# Altium footprint library drfc_pcblib.PcbLib: 18 footprints (part 1 of 2)
Each footprint in its own frame and in the unit in brackets; x right, y up, seen from the top. Pads: shape width x height; smd on the part's side, far side on the other; paste and mask are expansions set on the pad; w line width, h text height; cw(c..) or ccw(c..) is an arc to the next point about the centre after c.
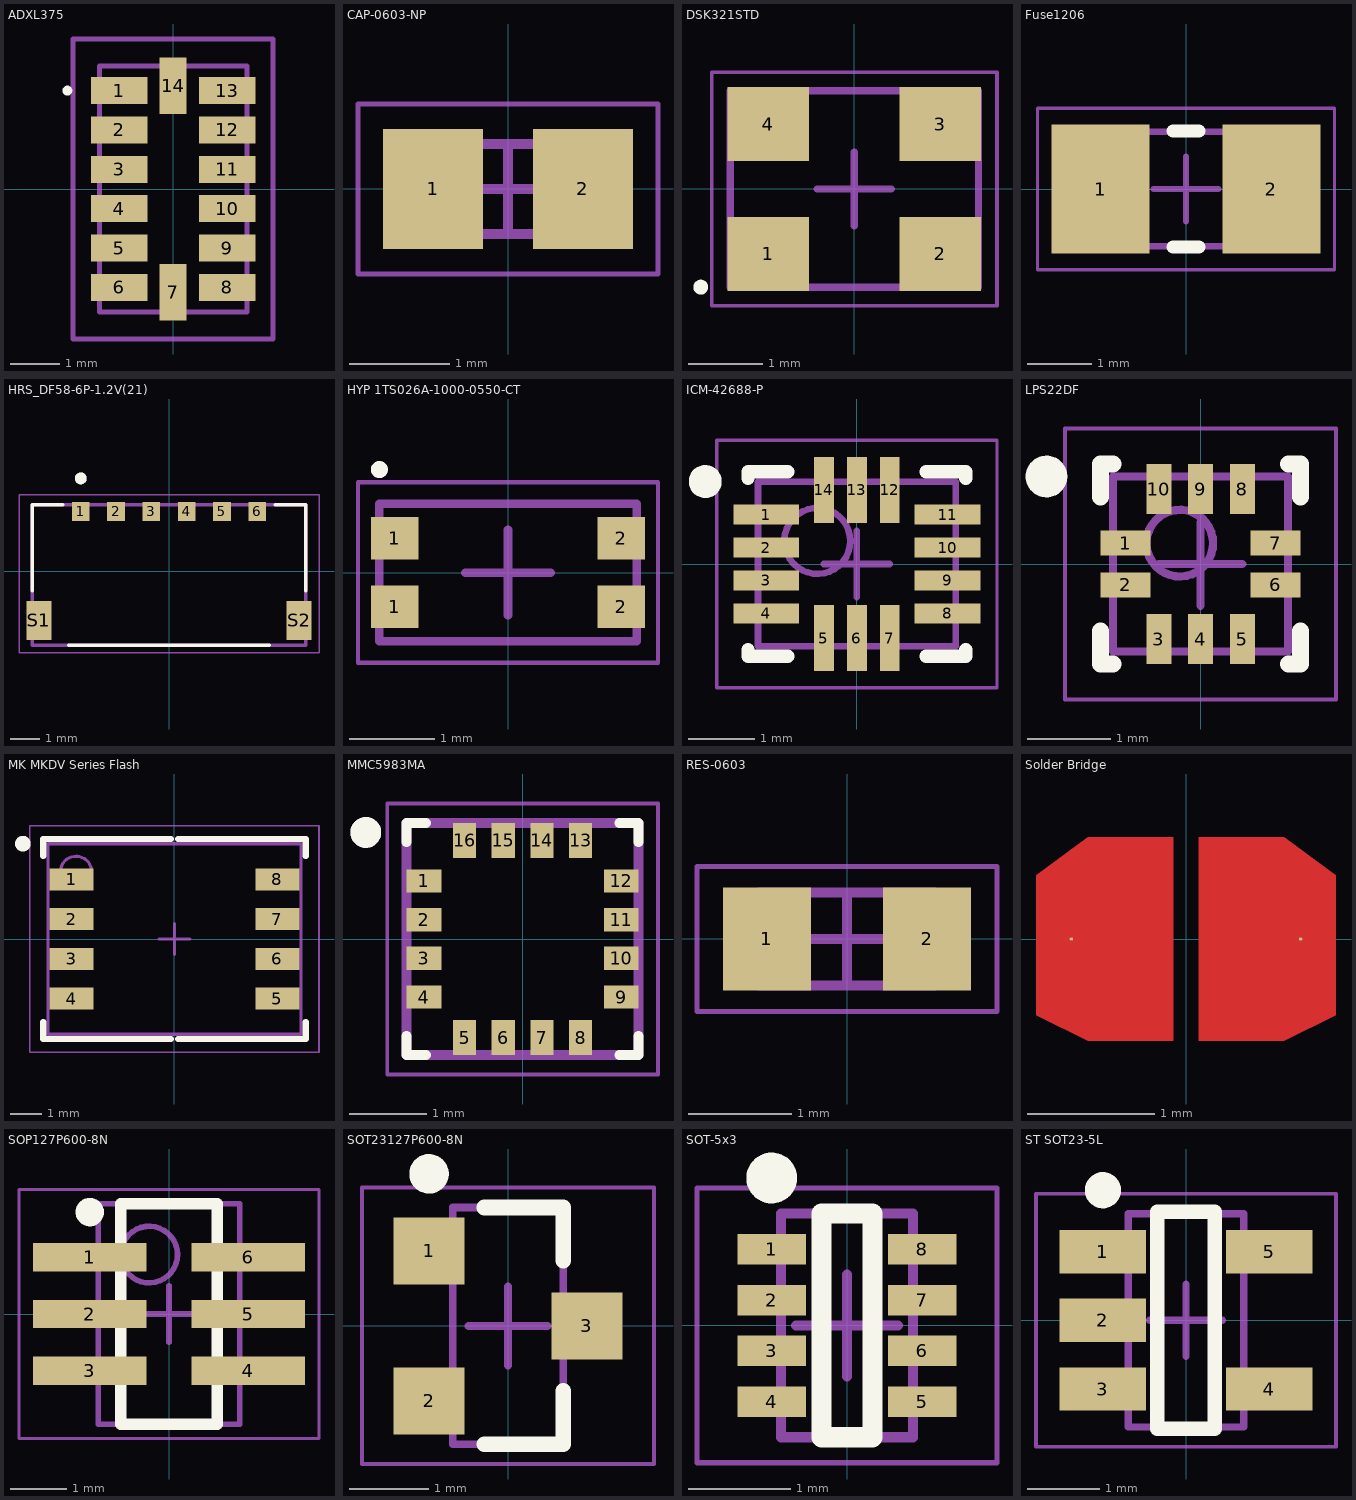
[diagram p0: the footprints below, top view; thin cyan lines are the x and y axes]

## ADXL375 [mm] "ADXL375 Accelerometer"
pads (14):
  rect 1.145x0.55 smd: 1(-1.098,2) 2(-1.098,1.2) 3(-1.098,0.4) 4(-1.098,-0.4) 5(-1.098,-1.2) 6(-1.098,-2) 8(1.098,-2) 9(1.098,-1.2) 10(1.098,-0.4) 11(1.098,0.4) 12(1.098,1.2) 13(1.098,2)
  rect 0.55x1.145 smd: 7(0,-2.098) 14(0,2.098)
Top Overlay:
  lines w0.1: -2.2,2 cw(c-2.15,2) -2.1,2 cw(c-2.15,2) -2.2,2
Mechanical 13:
  lines w0.1: -1.5,-2.5 -1.5,2.5 1.5,2.5 1.5,-2.5 -1.5,-2.5
Mechanical 15:
  lines w0.1: -2.032,-3.048 2.032,-3.048 2.032,3.048 -2.032,3.048 -2.032,-3.048
3D body "ADXL375BCCZ-RL.stp": height 1.1, standoff 0, extent -1.5,-2.5 1.5,2.5

## CAP-0603-NP [mm] "0603 Capacitor No Polarity"
height 0.9
pads (2):
  rect 1x1.2 smd: 1(-0.75,0) 2(0.75,0)
Mechanical 13:
  lines w0.1: -0.85,-0.45 -0.85,0.45 0.85,0.45 0.85,-0.45 -0.85,-0.45
Mechanical 15:
  lines w0.05: -1.5,-0.85 -1.5,0.85 1.5,0.85 1.5,-0.85 -1.5,-0.85
  lines w0.1: -0.45,0 0.45,0 ; 0,-0.45 0,0.45
3D body "CAP-0603-NP.step": height 0.9, standoff 0, extent -0.85,-0.45 0.85,0.45

## DSK321STD [mm] "DFN, 4-Leads, Body 3.20x2.50mm, Pitch 1.67mm, IPC Medium Density"
height 1
pads (4):
  rect 1.1x1 smd: 1(-1.16,-0.875) 2(1.16,-0.875) 3(1.16,0.875) 4(-1.16,0.875)
Top Overlay:
  circle w0.1: c-2.075,-1.325 r0.05
Mechanical 13:
  lines w0.1: -1.675,-1.325 -1.675,1.325 1.675,1.325 1.675,-1.325 -1.675,-1.325
Mechanical 15:
  lines w0.05: -1.925,-1.575 -1.925,1.575 1.925,1.575 1.925,-1.575 -1.925,-1.575
  lines w0.1: -0.5,0 0.5,0 ; 0,-0.5 0,0.5
3D body "DSK321STD.step": height 1, standoff 0, extent -1.675,-1.325 1.675,1.355

## Fuse1206 [mm] "Bel Fuse C1Q"
height 0.78
pads (2):
  rect 1.52x2 smd: 1(-1.325,0) 2(1.325,0)
Top Overlay:
  lines w0.2: -0.2,-0.9 0.2,-0.9 ; -0.2,0.9 0.2,0.9
Mechanical 13:
  lines w0.1: -1.7,-0.89 1.7,-0.89 1.7,0.89 -1.7,0.89 -1.7,-0.89
Mechanical 15:
  lines w0.05: -2.3,-1.25 2.3,-1.25 2.3,1.25 -2.3,1.25 -2.3,-1.25
  lines w0.1: -0.5,0 0.5,0 ; 0,-0.5 0,0.5
3D body "Chip2PinSM127P600-8N.step": height 0.78, standoff 0, extent -1.7,-0.89 1.7,0.89

## HRS_DF58-6P-1.2V(21) [mm] "Hirose DF58 6 Pin"
pads (8):
  rect 0.6x0.65 smd: 1(-3,2.025) 2(-1.8,2.025) 3(-0.6,2.025) 4(0.6,2.025) 5(1.8,2.025) 6(3,2.025)
  rect 0.85x1.34 smd: S1(-4.425,-1.68) S2(4.425,-1.68)
Top Overlay:
  circle w0.2: c-3,3.15 r0.1
  lines w0.127: -4.65,-0.66 -4.65,2.25 -3.62,2.25 ; -3.4,-2.52 3.4,-2.52 ; 3.62,2.25 4.65,2.25 4.65,-0.66
Mechanical 13:
  circle w0.2: c-3,3.15 r0.1
  lines w0.127: -4.65,-2.52 -4.65,2.25 4.65,2.25 4.65,-2.52 -4.65,-2.52
Mechanical 15:
  lines w0.05: -5.1,-2.77 -5.1,2.6 5.1,2.6 5.1,-2.77 -5.1,-2.77
3D body "DF58-6P-1.2V-21---3DModel-STEP-1.STEP": height 0.95, standoff 0, extent -4.65,-2.512 4.65,2.258

## HYP 1TS026A-1000-0550-CT [mm] "SPST Switch"
height 0.8
pads (4):
  rect 0.55x0.5 smd: 1(-1.325,-0.4) 1(-1.325,0.4) 2(1.325,-0.4) 2(1.325,0.4)
Top Overlay:
  circle w0.1: c-1.505,1.205 r0.05
Mechanical 13:
  lines w0.1: -1.505,-0.805 1.505,-0.805 1.505,0.805 -1.505,0.805 -1.505,-0.805
Mechanical 15:
  lines w0.05: -1.755,-1.055 1.755,-1.055 1.755,1.055 -1.755,1.055 -1.755,-1.055
  lines w0.1: -0.5,0 0.5,0 ; 0,-0.5 0,0.5
3D body "HYP 1TS026A-1000-0550-CT.step": height 0.8, standoff 0, extent -2,-0.805 2.05,0.805

## ICM-42688-P [mm] "QFN, 14-Leads, Body 3.00x2.50mm, Pitch 0.50mm, IPC Medium Density"
height 0.97
pads (14):
  rect 1x0.3 smd: 1(-1.375,0.75) 2(-1.375,0.25) 3(-1.375,-0.25) 4(-1.375,-0.75) 8(1.375,-0.75) 9(1.375,-0.25) 10(1.375,0.25) 11(1.375,0.75)
  rect 0.3x1 smd: 5(-0.5,-1.125) 6(0,-1.125) 7(0.5,-1.125) 12(0.5,1.125) 13(0,1.125) 14(-0.5,1.125)
Top Overlay:
  circle w0.25: c-2.3,1.25 r0.125
  lines w0.2: -1.65,-1.3 -1.65,-1.4 -1.05,-1.4 ; -1.65,1.3 -1.65,1.4 -1.05,1.4 ; 1.05,-1.4 1.65,-1.4 1.65,-1.3 ; 1.05,1.4 1.65,1.4 1.65,1.3
Mechanical 13:
  circle w0.1: c-0.6,0.35 r0.5
  lines w0.1: -1.5,-1.25 -1.5,1.25 1.5,1.25 1.5,-1.25 -1.5,-1.25
Mechanical 15:
  lines w0.05: -2.125,-1.875 -2.125,1.875 2.125,1.875 2.125,-1.875 -2.125,-1.875
  lines w0.1: -0.5,0 0.5,0 ; 0,-0.5 0,0.5
3D body "ICM-42688-P.step": height 0.97, standoff 0.11, extent -1.5,-1.25 1.5,1.25

## LPS22DF [mm] "QFN, 10-Leads, Body 2.00x2.00mm, Pitch 0.50mm, IPC Medium Density"
height 0.8
pads (10):
  rect 0.6x0.3 smd: 1(-0.9,0.25) 2(-0.9,-0.25) 6(0.9,-0.25) 7(0.9,0.25)
  rect 0.3x0.6 smd: 3(-0.5,-0.9) 4(0,-0.9) 5(0.5,-0.9) 8(0.5,0.9) 9(0,0.9) 10(-0.5,0.9)
Top Overlay:
  circle w0.25: c-1.85,1.05 r0.125
  lines w0.2: -1.2,-0.8 -1.2,-1.2 -1.05,-1.2 ; -1.2,0.8 -1.2,1.2 -1.05,1.2 ; 1.05,-1.2 1.2,-1.2 1.2,-0.8 ; 1.05,1.2 1.2,1.2 1.2,0.8
Mechanical 13:
  circle w0.1: c-0.25,0.25 r0.4
  lines w0.1: -1.05,-1.05 1.05,-1.05 1.05,1.05 -1.05,1.05 -1.05,-1.05
Mechanical 15:
  lines w0.05: -1.625,-1.625 1.625,-1.625 1.625,1.625 -1.625,1.625 -1.625,-1.625
  lines w0.1: -0.5,0 0.5,0 ; 0,-0.5 0,0.5
3D body "LPS22DF.step": height 0.8, standoff 0.08, extent -1.05,-1.05 1.05,1.05

## MK MKDV Series Flash [mm] "MK MKDV Series Flash"
height 0.75
pads (8):
  rect 1.4x0.7 smd: 1(-3.294,1.905) 2(-3.294,0.635) 3(-3.294,-0.635) 4(-3.294,-1.905) 5(3.294,-1.905) 6(3.294,-0.635) 7(3.294,0.635) 8(3.294,1.905)
Top Overlay:
  circle w0.25: c-4.85,3.05 r0.125
  lines w0.2: -4.2,-2.655 -4.2,-3.2 -0.115,-3.2 ; -4.2,2.655 -4.2,3.2 -0.115,3.2 ; 0.115,-3.2 4.2,-3.2 4.2,-2.655 ; 0.115,3.2 4.2,3.2 4.2,2.655
Mechanical 13:
  circle w0.1: c-3.15,2.15 r0.5
  lines w0.1: -4.05,-3.05 4.05,-3.05 4.05,3.05 -4.05,3.05 -4.05,-3.05
Mechanical 15:
  lines w0.05: -4.625,-3.625 4.625,-3.625 4.625,3.625 -4.625,3.625 -4.625,-3.625
  lines w0.1: -0.5,0 0.5,0 ; 0,-0.5 0,0.5
3D body "QFN127P800X600X75-8N.step": height 0.75, standoff 0.08, extent -4.05,-3.05 4.05,3.05

## MMC5983MA [mm] "Magnetometer"
pads (16):
  rect 0.45x0.3 smd: 1(-1.275,0.75) 2(-1.275,0.25) 3(-1.275,-0.25) 4(-1.275,-0.75) 9(1.275,-0.75) 10(1.275,-0.25) 11(1.275,0.25) 12(1.275,0.75)
  rect 0.3x0.45 smd: 5(-0.75,-1.275) 6(-0.25,-1.275) 7(0.25,-1.275) 8(0.75,-1.275) 13(0.75,1.275) 14(0.25,1.275) 15(-0.25,1.275) 16(-0.75,1.275)
Top Overlay:
  circle w0.2: c-2.028,1.378 r0.1
  lines w0.127: -1.5,-1.25 -1.5,-1.5 -1.25,-1.5 ; -1.5,1.25 -1.5,1.5 -1.25,1.5 ; 1.25,-1.5 1.5,-1.5 1.5,-1.25 ; 1.25,1.5 1.5,1.5 1.5,1.25
Mechanical 13:
  circle w0.2: c-2.028,1.378 r0.1
  lines w0.127: -1.5,-1.5 1.5,-1.5 1.5,1.5 -1.5,1.5 -1.5,-1.5
Mechanical 15:
  lines w0.05: -1.75,-1.75 1.75,-1.75 1.75,1.75 -1.75,1.75 -1.75,-1.75
3D body "step_temp.STEP": height 1, standoff 0, extent -1.5,-1.5 1.5,1.5

## RES-0603 [mm] "0603 Resistor"
height 0.55
pads (2):
  rect 0.85x1 smd: 1(-0.775,0) 2(0.775,0)
Mechanical 13:
  lines w0.1: -0.85,-0.45 0.85,-0.45 0.85,0.45 -0.85,0.45 -0.85,-0.45
Mechanical 15:
  lines w0.05: -1.45,-0.7 1.45,-0.7 1.45,0.7 -1.45,0.7 -1.45,-0.7
  lines w0.1: -0.45,0 0.45,0 ; 0,-0.45 0,0.45
3D body "Chip2PinSM127P600-8N.step": height 0.55, standoff 0, extent -0.85,-0.45 0.85,0.45

## Solder Bridge [mil] "Hex Solder Bridge"
pads (2):
  round 1 smd: 1(-35.43,0) 2(35.43,0)
Top Layer:
  region: 3.94,-31.5 3.94,31.5 30.32,31.5 46.34,19.68 46.34,-23.62 30.32,-31.5
  region: -3.94,-31.5 -3.94,31.5 -30.32,31.5 -46.34,19.68 -46.34,-23.62 -30.32,-31.5

## SOP127P600-8N [mm] "FFH10001-D06S1004K6M"
height 2.45
pads (6):
  rect 2x0.5 smd: 1(-1.4,1) 2(-1.4,0) 3(-1.4,-1) 4(1.4,-1) 5(1.4,0) 6(1.4,1)
Top Overlay:
  circle w0.25: c-1.4,1.8 r0.125
  lines w0.2: -0.85,-1.95 0.85,-1.95 0.85,1.95 -0.85,1.95 -0.85,-1.95
Mechanical 13:
  circle w0.1: c-0.35,1.05 r0.5
  lines w0.1: -1.25,-1.95 1.25,-1.95 1.25,1.95 -1.25,1.95 -1.25,-1.95
Mechanical 15:
  lines w0.05: -2.65,-2.2 2.65,-2.2 2.65,2.2 -2.65,2.2 -2.65,-2.2
  lines w0.1: -0.5,0 0.5,0 ; 0,-0.5 0,0.5
3D body: height 2.45, standoff 0.1, extent -1.25,-1.95 1.25,1.95

## SOT23127P600-8N [mm] "Bourns SOT23"
height 1.17
pads (3):
  rect 0.9x0.85 smd: 1(-1,0.95) 2(-1,-0.95) 3(1,0)
Top Overlay:
  circle w0.25: c-1,1.925 r0.125
  lines w0.2: -0.3,-1.5 0.7,-1.5 0.7,-0.825 ; -0.3,1.5 0.7,1.5 0.7,0.825
Mechanical 13:
  lines w0.1: -0.7,-1.5 -0.7,1.5 0.7,1.5 0.7,-1.5 -0.7,-1.5
Mechanical 15:
  lines w0.05: -1.85,-1.75 -1.85,1.75 1.85,1.75 1.85,-1.75 -1.85,-1.75
  lines w0.1: -0.5,0 0.5,0 ; 0,-0.5 0,0.5
3D body "SOT23127P600-8N.step": height 1.17, standoff 0, extent -1.245,-1.5 1.245,1.5

## SOT-5x3 [mm] "TI SOT-5x3 0.6mm Height"
height 0.6
pads (8):
  rect 0.67x0.3 smd: 1(-0.74,0.75) 2(-0.74,0.25) 3(-0.74,-0.25) 4(-0.74,-0.75) 5(0.74,-0.75) 6(0.74,-0.25) 7(0.74,0.25) 8(0.74,0.75)
Top Overlay:
  circle w0.25: c-0.74,1.45 r0.125
  lines w0.2: -0.25,-1.1 0.25,-1.1 0.25,1.1 -0.25,1.1 -0.25,-1.1
Mechanical 13:
  lines w0.1: -0.65,-1.1 0.65,-1.1 0.65,1.1 -0.65,1.1 -0.65,-1.1
Mechanical 15:
  lines w0.05: -1.475,-1.35 1.475,-1.35 1.475,1.35 -1.475,1.35 -1.475,-1.35
  lines w0.1: -0.5,0 0.5,0 ; 0,-0.5 0,0.5
3D body "SOT-5x3.step": height 0.64, standoff 0.05, extent -0.857,-1.1 0.857,1.1

## ST SOT23-5L [mm] "SOT23, 5-Leads, Body 2.95x2.80mm, Pitch 0.95mm, IPC Medium Density"
height 1.45
pads (5):
  rect 1.2x0.6 smd: 1(-1.15,0.95) 2(-1.15,0) 3(-1.15,-0.95) 4(1.15,-0.95) 5(1.15,0.95)
Top Overlay:
  circle w0.25: c-1.15,1.8 r0.125
  lines w0.2: -0.4,-1.5 0.4,-1.5 0.4,1.5 -0.4,1.5 -0.4,-1.5
Mechanical 13:
  lines w0.1: -0.8,-1.475 -0.8,1.475 0.8,1.475 0.8,-1.475 -0.8,-1.475
Mechanical 15:
  lines w0.05: -2.075,-1.75 -2.075,1.75 2.075,1.75 2.075,-1.75 -2.075,-1.75
  lines w0.1: -0.5,0 0.5,0 ; 0,-0.5 0,0.5
3D body "ST SOT23-5L.step": height 1.45, standoff 0, extent -1.4,-1.475 1.4,1.475